# EAGLE library part BASICATOMPRO1-M (library basicmicro)
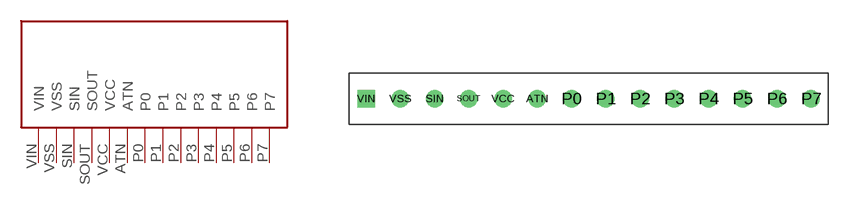
[diagram p6: symbol with the pads of SIP14; footprint SIP14]

Designator prefix -

## BASICATOMPRO1-M  [SIP14]
ATN  ATN  pwr
P0  P0
P1  P1
P2  P2
P3  P3
P4  P4
P5  P5
P6  P6
P7  P7
SIN  SIN  pwr
SOUT  SOUT  pwr
VCC  VCC  pwr
VIN  VIN  pwr
VSS  VSS  pwr

## Footprint SIP14 (pad centres in mm)
drill 0.8: ATN -3.81,0; P0 -1.27,0; P1 1.27,0; P2 3.81,0; P3 6.35,0; P4 8.89,0; P5 11.43,0; P6 13.97,0; P7 16.51,0; SIN -11.43,0; SOUT -8.89,0; VCC -6.35,0; VSS -13.97,0
drill 0.8 square: VIN -16.51,0